# Altium footprint library Q 其他.PcbLib: 7 footprints
Each footprint in its own frame and in the unit in brackets; x right, y up, seen from the top. Pads: shape width x height; smd on the part's side, far side on the other; paste and mask are expansions set on the pad; w line width, h text height; cw(c..) or ccw(c..) is an arc to the next point about the centre after c.
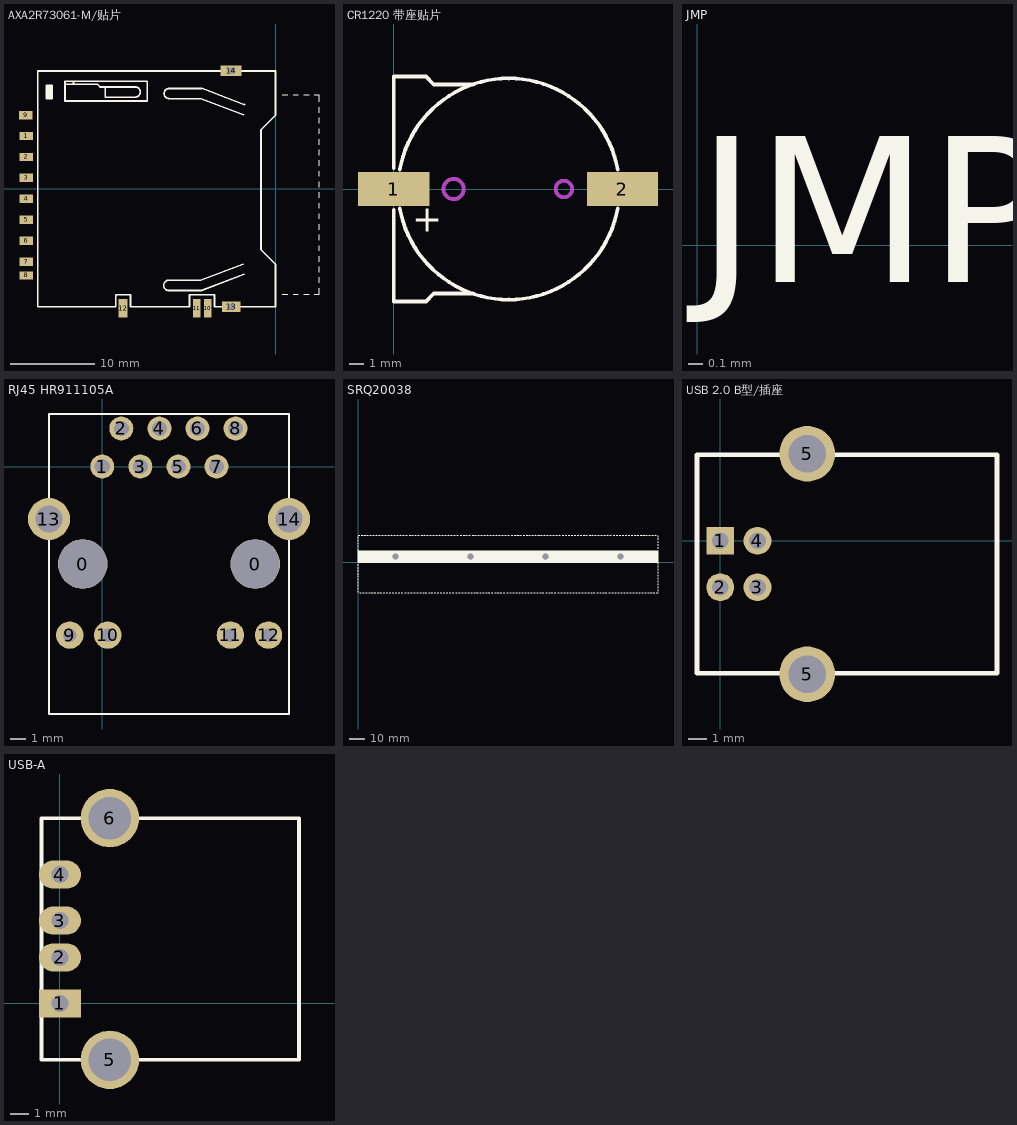
[diagram p0: the footprints below, top view; thin cyan lines are the x and y axes]

## AXA2R73061-M/贴片 [mm]
pads (14):
  rect 1.6x1 smd: 1(-29.778,6.3) 2(-29.778,3.8) 3(-29.778,1.3) 4(-29.778,-1.2) 5(-29.778,-3.7) 6(-29.778,-6.2) 7(-29.778,-8.7) 8(-29.778,-10.35) 9(-29.829,8.8)
  rect 0.9x2.2 smd: 10(-8.1,-14.275) 11(-9.4,-14.275)
  rect 1.1x2.2 smd: 12(-18.2,-14.275)
  rect 2.2x1.27 hole 0.762: 13(-5.3,-14.075)
  rect 2.5x1.27 hole 0.762: 14(-5.3,14.075)
Top Overlay:
  region: -26.67,10.788 -26.67,12.363 -27.356,12.363 -27.356,10.788
  lines w0.127: 0.822,-12.62 1.457,-12.62 ; 0.822,11.256 1.457,11.256 ; 2.092,-12.62 2.727,-12.62 ; 2.092,11.256 2.727,11.256 ; 3.362,-12.62 3.997,-12.62 ; 3.362,11.256 3.997,11.256 ; 4.632,-12.62 5.19,-12.62 5.19,-11.858 ; 4.632,11.256 5.19,11.256 5.19,10.367 ; 5.19,-11.223 5.19,-10.588 ; 5.19,-9.953 5.19,-9.318 ; 5.19,-8.683 5.19,-8.048 ; 5.19,-7.413 5.19,-6.778 ; 5.19,-6.143 5.19,-5.508 ; 5.19,-4.873 5.19,-4.238 ; 5.19,-3.603 5.19,-2.968 ; 5.19,-2.333 5.19,-1.698 ; 5.19,-1.063 5.19,-0.428 ; 5.19,0.207 5.19,0.842 ; 5.19,1.477 5.19,2.112 ; 5.19,2.747 5.19,3.382 ; 5.19,4.017 5.19,4.652 ; 5.19,5.287 5.19,5.922 ; 5.19,6.557 5.19,7.192 ; 5.19,7.827 5.19,8.462 ; 5.19,9.097 5.19,9.732
  lines w0.203: -27.356,12.316 -27.356,10.792 -26.67,10.792 -26.67,12.366 -27.356,12.366 ; -25.146,12.468 -21.26,12.468 -20.955,12.163 -16.764,12.163 cw(c-16.764,11.554) -16.154,11.554 cw(c-16.764,11.554) -16.764,10.944 -20.32,10.944 -20.32,12.163 ; -24.13,12.468 -24.13,12.849 ; -3.861,-8.995 -8.941,-10.925 -12.751,-10.925 ccw(c-12.751,-11.535) -13.36,-11.535 ccw(c-12.751,-11.535) -12.751,-12.145 -12.649,-12.145 -8.839,-12.145 -3.759,-10.214 ; -3.81,8.836 -8.89,10.766 -12.7,10.766 cw(c-12.7,11.376) -13.31,11.376 cw(c-12.7,11.376) -12.7,11.985 -12.598,11.985 -8.788,11.985 -3.708,10.055 ; -28.4,-14.075 -28.4,14.075 0,14.075 0,8.785 -1.727,7.058 -1.727,-7.293 0,-9.02 0,-14.075 -7.29,-14.075 -7.29,-12.653 -10.275,-12.653 -10.275,-14.075 -17.323,-14.075 -17.323,-12.653 -19.075,-12.653 -19.075,-14.075 -28.4,-14.075 ; -25.146,10.487 -25.146,12.849 -15.316,12.849 -15.316,10.487 -25.146,10.487
Mechanical 1:
  lines w0.127: -6.1,-14.375 -6.1,-13.775 -4.5,-13.775 -4.5,-14.375 -6.1,-14.375 ; -6.1,13.775 -4.5,13.775 -4.5,14.375 -6.1,14.375 -6.1,13.775

## CR1220 带座贴片 [mil]
height 104.33
pads (2):
  rect 190x90 smd: 1(0,0) 2(610,0)
Top Overlay:
  lines w10: 0,-56 0,-300 86,-300 107,-279 210,-279 ; 0,56 0,300 86,300 107,279 210,279 ; 16.48,-51.23 ccw(c307,0) 597.52,-51.23 ; 16.48,51.23 cw(c307,0) 597.52,51.23
  text "+" at 49,-114 h70
Keep-Out Layer:
  circle w10: c454,0 r22
  circle w10: c160,0 r27
Mechanical 1:
  circle w10: c454,0 r22
  circle w10: c160,0 r27

## JMP [mm] "跳线帽"
Top Overlay:
  text "JMP" at 0,-0.635 h2.03

## RJ45 HR911105A [mm] "RJ45 HR911105A"
pads (16):
  round 3.3 hole 3.25: 0(-1.3,-6.5) 0(10.2,-6.5)
  round 1.6 hole 1: 1(0,0) 2(1.27,2.54) 3(2.54,0) 4(3.81,2.54) 5(5.08,0) 6(6.35,2.54) 7(7.62,0) 8(8.89,2.54)
  round 1.829 hole 0.914: 9(-2.166,-11.241) 10(0.365,-11.241) 11(8.54,-11.241) 12(11.084,-11.241)
  round 2.8 hole 1.8: 13(-3.55,-3.5) 14(12.45,-3.5)
Top Overlay:
  lines w0.15: -3.55,-16.5 -3.55,3.5 12.45,3.5 12.45,-16.5 -3.55,-16.5

## SRQ20038 [mm] "散热器长度200mm，宽度38mm"
height 5.08
pads (4):
  round 4 hole 4: 0(25,4) 0(75,4) 0(125,4) 0(175,4)
Top Overlay:
  drawing of 236 lines, arcs and shapes, not listed

## USB 2.0 B型/插座 [mil]
pads (6):
  rect 60x60 hole 36: 1(0,0)
  round 60 hole 36: 2(0,-100) 3(80,-100) 4(80,0)
  round 120 hole 80: 5(187,-287) 5(187,187)
Top Overlay:
  lines w10: -50,-285 -50,185 190,185 595,185 595,-285 465,-285 190,-285 -50,-285

## USB-A [mil]
height 200
pads (6):
  rect 90x60 hole 36: 1(0,0)
  oval 90x60 hole 36: 2(0,98.43) 3(0,177.17) 4(0,275.59)
  round 125 hole 90.55: 5(106.69,-120.87) 6(106.69,396.46)
Top Overlay:
  lines w8: -39.37,-120.87 -39.37,396.46 511.81,396.46 511.81,-120.87 -39.37,-120.87